# EAGLE library part XBEEPROSX (library lbr_rin9147)
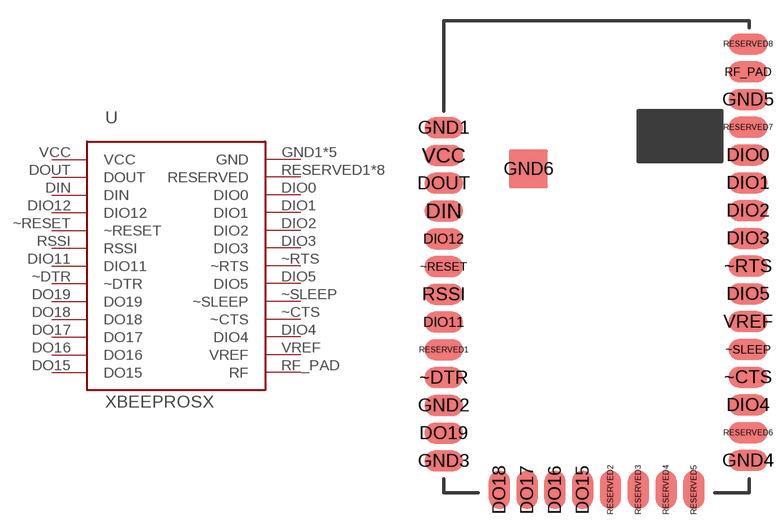
[diagram p5: symbol with the pads of XBEEPROSX; footprint XBEEPROSX]

Designator prefix -

## XBEEPROSX  [XBEEPROSX]
DIN  DIN
DIO0  DIO0
DIO1  DIO1
DIO2  DIO2
DIO3  DIO3
DIO4  DIO4
DIO5  DIO5
DIO11  DIO11
DIO12  DIO12
DO15  DO15  out
DO16  DO16  out
DO17  DO17  out
DO18  DO18  out
DO19  DO19  out
DOUT  DOUT
GND1  GND  pas
GND2  GND  pas
GND3  GND  pas
GND4  GND  pas
GND5  GND  pas
RESERVED1  RESERVED
RESERVED2  RESERVED
RESERVED3  RESERVED
RESERVED4  RESERVED
RESERVED5  RESERVED
RESERVED6  RESERVED
RESERVED7  RESERVED
RESERVED8  RESERVED
RF_PAD  RF
RSSI  RSSI
VCC  VCC  pas
VREF  VREF
~CTS  ~CTS
~DTR  ~DTR
~RESET  ~RESET  in
~RTS  ~RTS
~SLEEP  ~SLEEP

## Footprint XBEEPROSX (pad centres in mm)
smd 2.8 x 1.52: DIN 0,-6.08; DIO0 21.9,-2.05; DIO1 21.9,-4.05; DIO2 21.9,-6.05; DIO3 21.9,-8.05; DIO4 21.9,-20.05; DIO5 21.9,-12.05; DIO11 0,-14.08; DIO12 0,-8.08; DO19 0,-22.08; DOUT 0,-4.08; GND1 0,-0.08; GND2 0,-20.08; GND3 0,-24.08; GND4 21.9,-24.05; GND5 21.9,1.95; RESERVED1 0,-16.08; RESERVED6 21.9,-22.05; RESERVED7 21.9,-0.05; RESERVED8 21.9,5.95; RF_PAD 21.9,3.95; RSSI 0,-12.08; VCC 0,-2.08; VREF 21.9,-14.05; ~CTS 21.9,-18.05; ~DTR 0,-18.08; ~RESET 0,-10.08; ~RTS 21.9,-10.05; ~SLEEP 21.9,-16.05
smd 1.52 x 2.8: DO15 10,-26.16; DO16 8,-26.16; DO17 6,-26.16; DO18 4,-26.16; RESERVED2 12,-26.16; RESERVED3 14,-26.16; RESERVED4 16,-26.16; RESERVED5 18,-26.16
smd 2.79 x 2.79: GND6 6.095,-3.045